# Altium footprint library TP_2.16mm.PcbLib: 1 footprints
Each footprint in its own frame and in the unit in brackets; x right, y up, seen from the top. Pads: shape width x height; smd on the part's side, far side on the other; paste and mask are expansions set on the pad; w line width, h text height; cw(c..) or ccw(c..) is an arc to the next point about the centre after c.
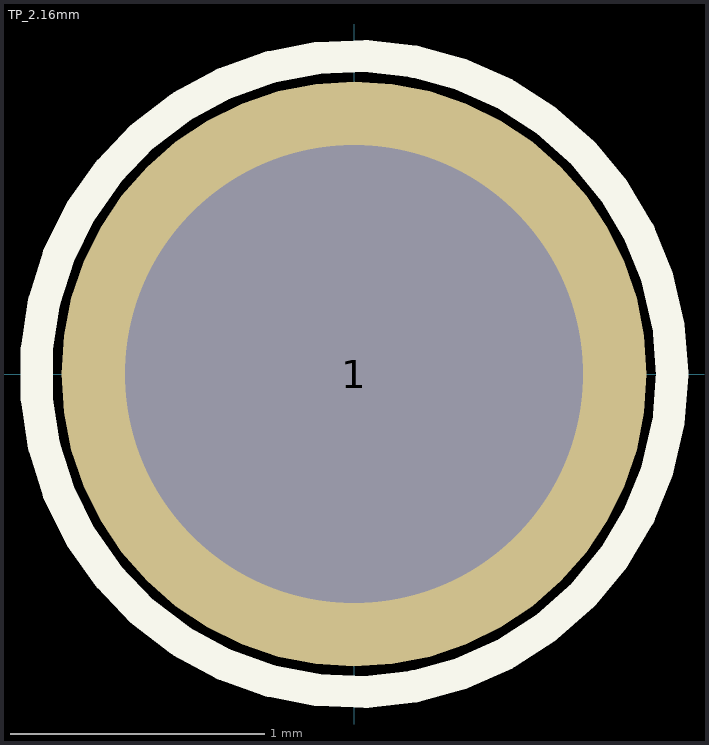
[diagram p0: the footprint, top view; thin cyan lines are the x and y axes]

## TP_2.16mm [mm]
pads (1):
  round 2.3 hole 1.8: 1(0,0)
Top Overlay:
  circle w0.127: c0,0 r1.25
Top 3D Body:
  circle w0.127: c0,0 r1.08
Top Courtyard:
  circle w0.05: c0,0 r1.25
3D body "0926-1-15-20-75-14-11-0--3DModel-STEP-56544.STEP": height 3.21, standoff -2, extent -1.072,-1.079 1.072,1.079